# Altium footprint library mylib.PcbLib: 214 footprints (part 6 of 14)
Each footprint in its own frame and in the unit in brackets; x right, y up, seen from the top. Pads: shape width x height; smd on the part's side, far side on the other; paste and mask are expansions set on the pad; w line width, h text height; cw(c..) or ccw(c..) is an arc to the next point about the centre after c.
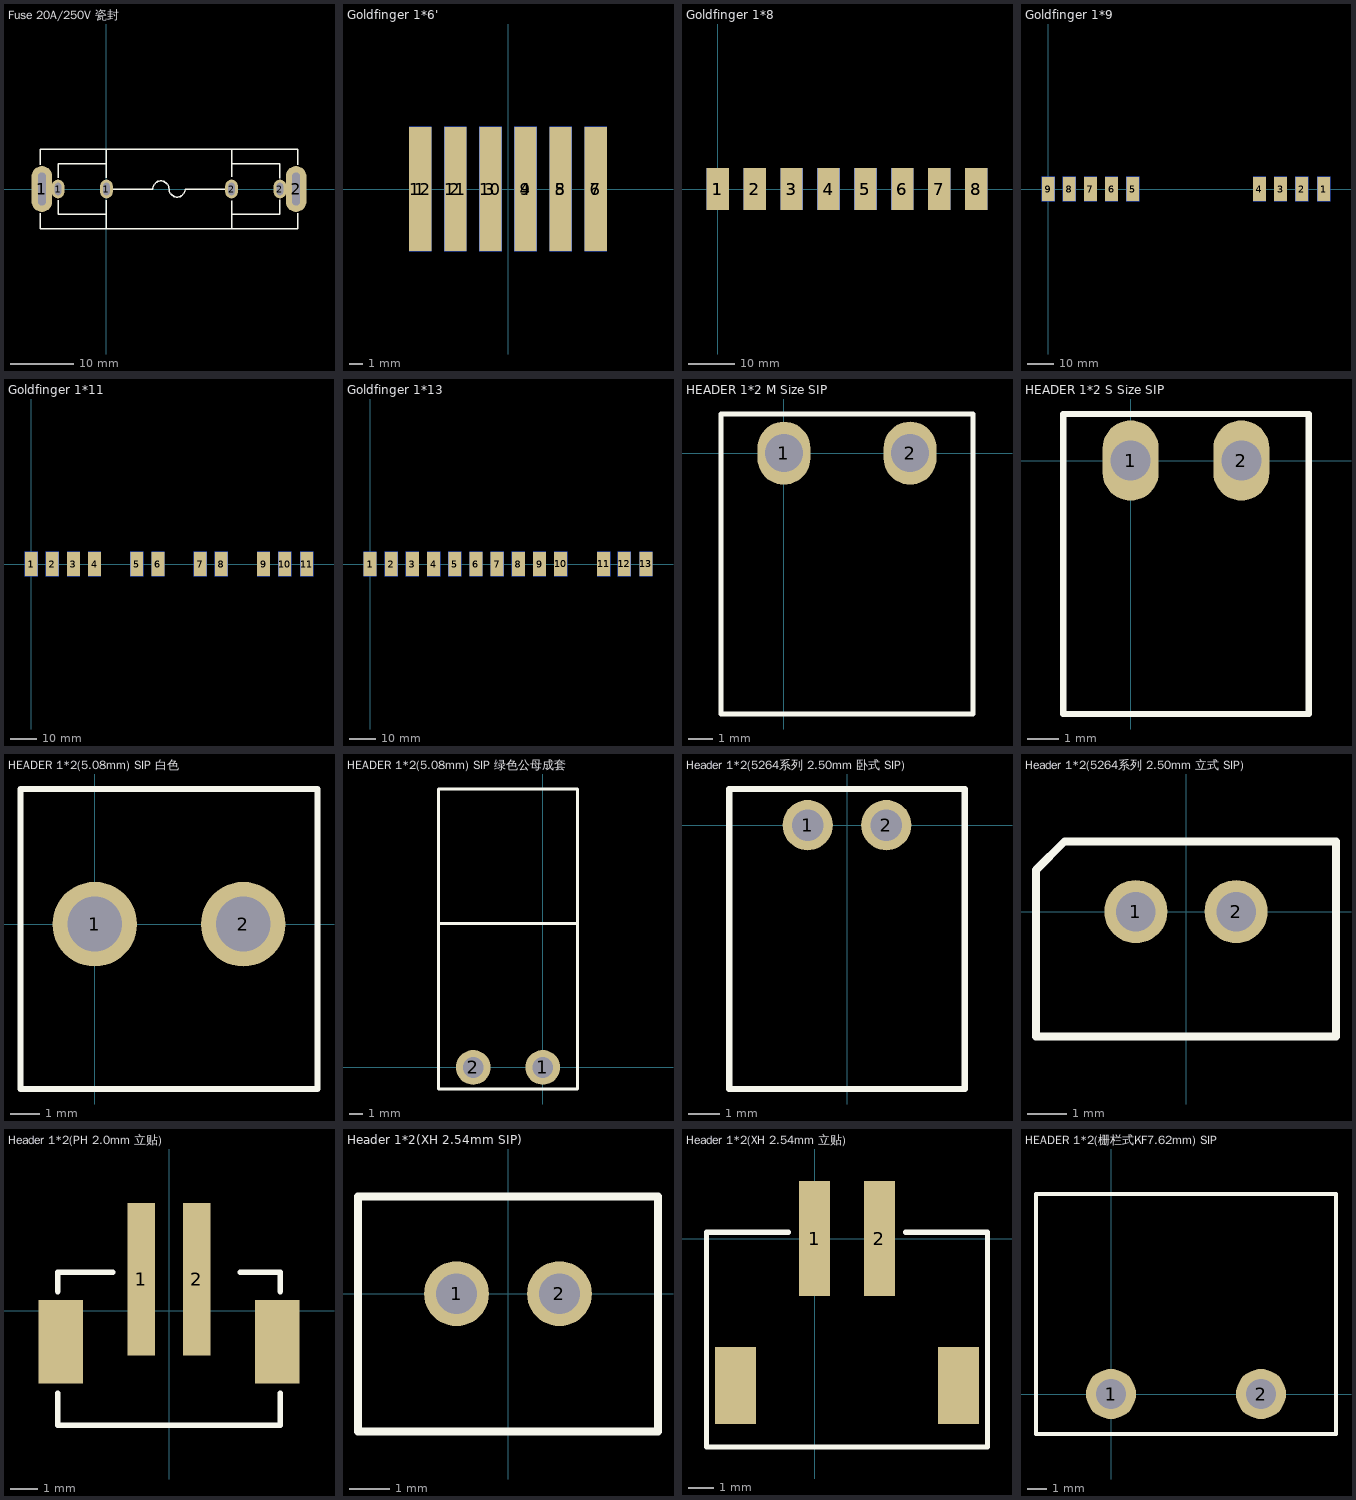
[diagram p5: the footprints below, top view; thin cyan lines are the x and y axes]

## Fuse 20A/250V 瓷封 [mil]
pads (6):
  oval 128x284 hole 48 slot 204 at 90 deg: 1(-400,0) 2(1174.8,0)
  oval 78x116 hole 38 slot 76 at 90 deg: 1(-300,0) 1(0,0) 2(774.8,0) 2(1074.8,0)
Top Overlay:
  lines w8: -411.07,-150 -411.07,-245.83 1185.87,-245.83 1185.87,-150 ; -411.07,149 -411.07,245.83 1185.87,245.83 1185.87,150 ; -300,-69 -300,-156 0,-156 0,-70 0,-245.83 ; -300,71 -300,156 0,156 0,71 0,245.83 ; 42.4,0 287.4,0 cw(c337.4,0) 387.4,0 ccw(c437.4,0) 487.4,0 732.4,0 ; 774.8,-245.83 774.8,-72 774.8,-156 1074.8,-156 1074.8,-68 ; 774.8,245.83 774.8,75 774.8,156 1074.8,156 1074.8,68

## Goldfinger 1*6' [mm]
pads (12):
  rect 1.6x9 smd: 1(-6.35,0) 2(-3.81,0) 3(-1.27,0) 4(1.27,0) 5(3.81,0) 6(6.35,0)
  rect 1.6x9 smd far side: 7(6.35,0) 8(3.81,0) 9(1.27,0) 10(-1.27,0) 11(-3.81,0) 12(-6.35,0)

## Goldfinger 1*8 [mm]
pads (16):
  rect 4.8x9 smd: 1(0,0) 2(8,0) 3(16,0) 4(24,0) 5(32,0) 6(40,0) 7(48,0) 8(56,0)
  rect 4.8x9 smd far side: 1(0,0) 2(8,0) 3(16,0) 4(24,0) 5(32,0) 6(40,0) 7(48,0) 8(56,0)

## Goldfinger 1*9 [mil]
pads (18):
  rect 188x360 smd: 1(4058,0) 2(3732,0) 3(3421,0) 4(3110,0) 5(1244,0) 6(933,0) 7(622,0) 8(311,0) 9(0,0)
  rect 188x360 smd far side: 1(4058,0) 2(3732,0) 3(3421,0) 4(3110,0) 5(1244,0) 6(933,0) 7(622,0) 8(311,0) 9(0,0)

## Goldfinger 1*11 [mil]
pads (22):
  rect 188x360 smd: 1(0,0) 2(311,0) 3(622,0) 4(933,0) 5(1555,0) 6(1866,0) 7(2488,0) 8(2799,0) 9(3421,0) 10(3732,0) 11(4058,0)
  rect 188x360 smd far side: 1(0,0) 2(311,0) 3(622,0) 4(933,0) 5(1555,0) 6(1866,0) 7(2488,0) 8(2799,0) 9(3421,0) 10(3732,0) 11(4058,0)

## Goldfinger 1*13 [mm]
pads (26):
  rect 4.8x9 smd: 1(0,0) 2(7.9,0) 3(15.8,0) 4(23.7,0) 5(31.6,0) 6(39.5,0) 7(47.4,0) 8(55.3,0) 9(63.2,0) 10(71.1,0.025) 11(87.1,0.025) 12(94.8,0.025) 13(102.9,0.025)
  rect 4.8x9 smd far side: 1(0,0) 2(7.9,0) 3(15.8,0) 4(23.7,0) 5(31.6,0) 6(39.5,0) 7(47.4,0) 8(55.3,0) 9(63.2,0) 10(71.1,0.025) 11(87.1,0.025) 12(94.8,0.025) 13(102.9,0.025)

## HEADER 1*2 M Size SIP [mil]
pads (2):
  oval 84x100 hole 60: 1(0,0) 2(200,0)
Top Overlay:
  lines w8: -100,-413.39 300,-413.39 300,62 -100,62 -100,-413.39

## HEADER 1*2 S Size SIP [mil]
pads (2):
  oval 70x100 hole 50: 1(0,0) 2(138,0)
Top Overlay:
  lines w8: -84,-316 222,-316 222,58 -84,58 -84,-316

## HEADER 1*2(5.08mm) SIP 白色 [mil]
pads (2):
  round 114 hole 74: 1(0,0) 2(200,0)
Top Overlay:
  lines w8: -100,-222 -100,182 300,182 300,-222 -100,-222

## HEADER 1*2(5.08mm) SIP 绿色公母成套 [mil]
pads (2):
  round 100 hole 60: 1(0,0) 2(-200,0)
Top Overlay:
  lines w8: -300,413.39 100,413.39 ; -300,-62 -300,800 100,800 100,-62 -300,-62

## Header 1*2(5264系列 2.50mm 卧式 SIP) [mm]
pads (2):
  round 1.6 hole 1: 1(-1.25,0) 2(1.25,0)
Top Overlay:
  lines w0.2: -3.75,-8.4 -3.75,1.15 3.75,1.15 3.75,-8.4 -3.75,-8.4

## Header 1*2(5264系列 2.50mm 立式 SIP) [mm]
pads (2):
  round 1.6 hole 1: 1(-1.27,0) 2(1.27,0)
Top Overlay:
  lines w0.203: -3.8,-3.17 -3.8,1.051 -3.071,1.78 3.8,1.78 3.8,-3.17 -3.8,-3.17

## Header 1*2(PH 2.0mm 立贴) [mm]
pads (4):
  rect 1x5.5 smd: 1(-1,1.125) 2(1,1.125)
  rect 1.6x3 smd: ""(-3.9,-1.125) ""(3.9,-1.125)
Top Overlay:
  lines w0.203: -4,-2.972 -4,-4.125 4,-4.125 4,-2.972 ; -4,0.686 -4,1.375 -2.03,1.375 ; 2.57,1.375 4,1.375 4,0.686

## Header 1*2(XH 2.54mm SIP) [mm]
pads (2):
  round 1.6 hole 1: 1(-1.27,0) 2(1.27,0)
Top Overlay:
  lines w0.203: -3.7,-3.4 -3.7,2.4 3.7,2.4 3.7,-3.4 -3.7,-3.4

## Header 1*2(XH 2.54mm 立贴) [mm]
pads (4):
  rect 1.2x4.5 smd: 1(0,0) 2(2.54,0)
  rect 1.6x3 smd: ""(-3.1,-5.75) ""(5.64,-5.75)
Top Overlay:
  lines w0.203: -1.03,0.25 -4.23,0.25 -4.23,-8.15 6.77,-8.15 6.77,0.25 3.57,0.25

## HEADER 1*2(栅栏式KF7.62mm) SIP [mil]
pads (2):
  round 100 hole 60: 1(0,0) 2(300,0)
Top Overlay:
  lines w8: -150,-80 -150,400 450,400 450,-80 -150,-80